# Altium footprint library TPS40057.PcbLib: 22 footprints (part 2 of 2)
Each footprint in its own frame and in the unit in brackets; x right, y up, seen from the top. Pads: shape width x height; smd on the part's side, far side on the other; paste and mask are expansions set on the pad; w line width, h text height; cw(c..) or ccw(c..) is an arc to the next point about the centre after c.
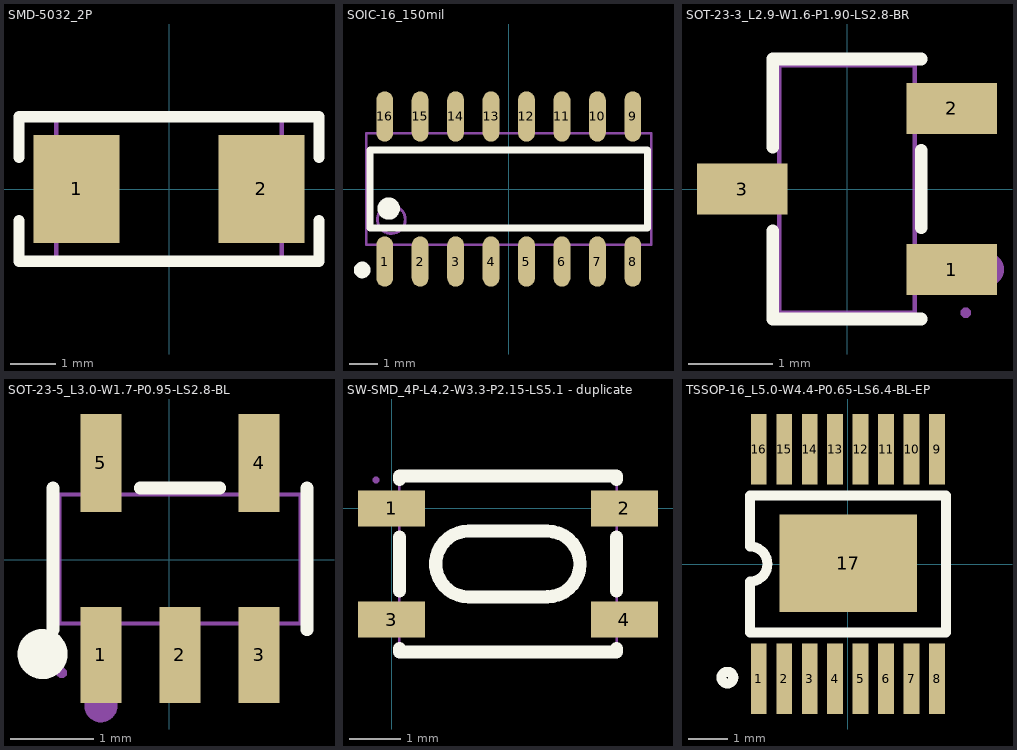
[diagram p1: the footprints below, top view; thin cyan lines are the x and y axes]

## SMD-5032_2P [mm]
pads (2):
  rect 1.9x2.4 smd: 1(-2.05,0) 2(2.05,0)
Top Overlay:
  lines w0.254: -3.325,-0.7 -3.325,-1.6 3.325,-1.6 3.325,-0.7 ; -3.325,0.7 -3.325,1.6 3.325,1.6 3.325,0.7
Mechanical 13:
  lines w0.1: -2.5,-1.6 -2.5,1.6 2.5,1.6 2.5,-1.6 -2.5,-1.6

## SOIC-16_150mil [mm]
pads (16):
  oval 0.6x1.8 smd: 1(-4.445,-2.6) 2(-3.175,-2.6) 3(-1.905,-2.6) 4(-0.635,-2.6) 5(0.635,-2.6) 6(1.905,-2.6) 7(3.175,-2.6) 8(4.445,-2.6) 9(4.445,2.6) 10(3.175,2.6) 11(1.905,2.6) 12(0.635,2.6) 13(-0.635,2.6) 14(-1.905,2.6) 15(-3.175,2.6) 16(-4.445,2.6)
Top Overlay:
  circle w0.3: c-5.25,-2.9 r0.15
  circle w0.4: c-4.3,-0.7 r0.2
  lines w0.254: -4.975,-1.4 4.975,-1.4 4.975,1.4 -4.975,1.4 -4.975,-1.4
Mechanical 13:
  circle w0.1: c-4.205,-1.095 r0.5
  lines w0.1: -5.105,-1.995 5.105,-1.995 5.105,1.995 -5.105,1.995 -5.105,-1.995
3D body "SOIC16P127_990X600X175L60X40.STEP": height 1.75, standoff 0, extent -4.95,-2.97 4.95,3.03

## SOT-23-3_L2.9-W1.6-P1.90-LS2.8-BR [mm]
pads (3):
  rect 1.07x0.6 smd: 1(1.235,-0.95) 2(1.235,0.95) 3(-1.235,0)
Top Overlay:
  lines w0.152: -0.876,-0.495 -0.876,-1.536 0.876,-1.536 ; -0.876,0.495 -0.876,1.536 0.876,1.536 ; 0.876,-0.455 0.876,0.455
Mechanical 6:
  circle w0.2: c1.651,-0.95 r0.1
Mechanical 15:
  region: 1.46,-1.46 1.46,-1.435 1.425,-1.4 1.375,-1.4 1.34,-1.435 1.34,-1.46 1.34,-1.485 1.375,-1.52 1.425,-1.52 1.46,-1.485 1.46,-1.46
  region: 0.95,-1.15 0.95,-0.75 1.4,-0.75 1.4,-1.15
  region: 0.79,-1.15 0.79,-0.75 0.96,-0.75 0.96,-1.15
  region: 0.95,0.75 0.95,1.15 1.4,1.15 1.4,0.75
  region: 0.79,0.75 0.79,1.15 0.96,1.15 0.96,0.75
  region: -0.95,-0.2 -0.95,0.2 -1.4,0.2 -1.4,-0.2
  region: -0.96,-0.2 -0.96,0.2 -0.79,0.2 -0.79,-0.2
  lines w0.051: -0.8,-1.46 -0.8,1.46 0.8,1.46 0.8,-1.46 -0.8,-1.46
3D body: height 1.25, standoff 0, extent -0.9,-1.55 0.9,1.55

## SOT-23-5_L3.0-W1.7-P0.95-LS2.8-BL [mm]
pads (5):
  rect 0.49x1.157 smd paste+0 mask+0.051: 1(-0.823,-1.143) 2(0.127,-1.143) 3(1.077,-1.143)
  rect 0.49x1.175 smd paste+0 mask+0.051: 4(1.077,1.164) 5(-0.823,1.164)
Top Overlay:
  circle w0.3: c-1.524,-1.132 r0.15
  lines w0.152: -1.399,-0.841 -1.399,0.862 ; -0.349,0.862 0.603,0.862 ; 1.653,-0.841 1.653,0.862
Mechanical 6:
  circle w0.2: c-0.823,-1.752 r0.1
Mechanical 15:
  region: -0.998,-1.389 -0.998,-0.989 -0.648,-0.989 -0.648,-1.389
  region: -0.998,-0.999 -0.998,-0.729 -0.648,-0.729 -0.648,-0.999
  region: -0.048,-1.389 -0.048,-0.989 0.302,-0.989 0.302,-1.389
  region: -0.048,-0.999 -0.048,-0.729 0.302,-0.729 0.302,-0.999
  region: 0.902,-1.389 0.902,-0.989 1.252,-0.989 1.252,-1.389
  region: 0.902,-0.999 0.902,-0.729 1.252,-0.729 1.252,-0.999
  region: 0.902,1.011 0.902,1.411 1.252,1.411 1.252,1.011
  region: 0.902,0.751 0.902,1.021 1.252,1.021 1.252,0.751
  region: -0.998,1.011 -0.998,1.411 -0.648,1.411 -0.648,1.011
  region: -0.998,0.751 -0.998,1.021 -0.648,1.021 -0.648,0.751
  region: -1.233,-1.359 -1.233,-1.334 -1.268,-1.299 -1.318,-1.299 -1.353,-1.334 -1.353,-1.359 -1.353,-1.384 -1.318,-1.419 -1.268,-1.419 -1.233,-1.384
  lines w0.051: -1.323,-0.764 -1.323,0.786 1.577,0.786 1.577,-0.764 -1.323,-0.764

## SW-SMD_4P-L4.2-W3.3-P2.15-LS5.1 - duplicate [mm]
pads (4):
  rect 1.3x0.7 smd paste+0 mask+0.051: 1(0,0) 2(4.5,0) 3(0,-2.15) 4(4.5,-2.15)
Top Overlay:
  lines w0.254: 0.15,-2.706 0.15,-2.775 4.35,-2.775 4.35,-2.706 ; 0.15,-1.594 0.15,-0.556 ; 0.15,0.556 0.15,0.625 4.35,0.625 4.35,0.556 ; 1.487,-0.439 ccw(c1.487,-1.075) 1.488,-1.71 3.012,-1.71 ; 1.488,-0.44 3.012,-0.44 cw(c3.007,-1.075) 3.011,-1.709 ; 4.35,-1.594 4.35,-0.556
Mechanical 15:
  region: 0.35,0.275 0.35,-0.275 -0.3,-0.275 -0.3,0.275
  region: 4.8,0.275 4.8,-0.275 4.15,-0.275 4.15,0.275
  region: 0.35,-1.875 0.35,-2.425 -0.3,-2.425 -0.3,-1.875
  region: 4.8,-1.875 4.8,-2.425 4.15,-2.425 4.15,-1.875
  region: -0.24,0.55 -0.24,0.575 -0.275,0.61 -0.325,0.61 -0.36,0.575 -0.36,0.55 -0.36,0.525 -0.325,0.49 -0.275,0.49 -0.24,0.525
  lines w0.051: 0.15,-2.7 4.35,-2.7 4.35,0.55 0.15,0.55 0.15,-2.7

## TSSOP-16_L5.0-W4.4-P0.65-LS6.4-BL-EP [mil]
pads (17):
  rect 16x71 smd paste+0 mask+4: 1(-89.56,-115.16) 2(-63.98,-115.16) 3(-38.38,-115.16) 4(-12.79,-115.16) 5(12.79,-115.16) 6(38.38,-115.16) 7(63.98,-115.16) 8(89.56,-115.16) 9(89.56,115.16) 10(63.98,115.16) 11(38.38,115.16) 12(12.79,115.16) 13(-12.79,115.16) 14(-38.38,115.16) 15(-63.98,115.16) 16(-89.56,115.16)
  rect 138x98 smd paste+0 mask+4: 17(0.47,0.58)
Top Overlay:
  circle w10: c-121.06,-114.12 r5.91
  lines w10: -98.43,-17.72 ccw(c-98.56,0) -98.42,17.72 -98.42,68.9 98.42,68.9 98.42,-68.9 -98.42,-68.9 -98.42,-17.72